# Altium footprint library lib_vishay.PcbLib: 4 footprints
Each footprint in its own frame and in the unit in brackets; x right, y up, seen from the top. Pads: shape width x height; smd on the part's side, far side on the other; paste and mask are expansions set on the pad; w line width, h text height; cw(c..) or ccw(c..) is an arc to the next point about the centre after c.
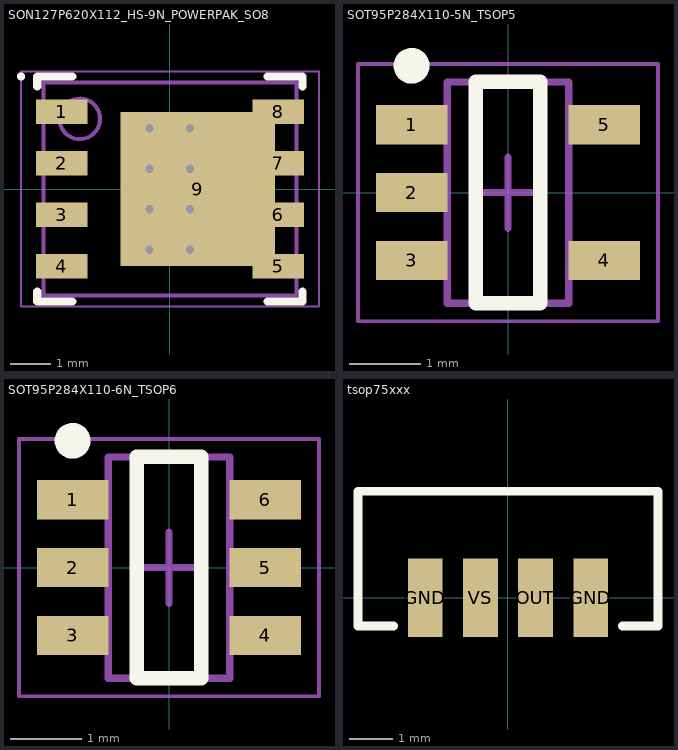
[diagram p0: the footprints below, top view; thin cyan lines are the x and y axes]

## SON127P620X112_HS-9N_POWERPAK_SO8 [mm] "SON, 8-Leads, Body 5.15x6.15mm, Pitch 1.27mm, Thermal Pad 3.98x1.50mm, IPC Medium Density"
height 1.12
pads (9):
  rect 1.27x0.61 smd: 1(-2.67,1.905) 2(-2.67,0.635) 3(-2.67,-0.635) 4(-2.67,-1.905) 5(2.67,-1.905) 6(2.67,-0.635) 7(2.67,0.635) 8(2.67,1.905)
  rect 3.81x3.81 smd: 9(0.69,0)
via 0.5,-1.5 diameter 0.5 hole 0.2
via -0.5,-1.5 diameter 0.5 hole 0.2
via 0.5,-0.5 diameter 0.5 hole 0.2
via -0.5,-0.5 diameter 0.5 hole 0.2
via 0.5,0.5 diameter 0.5 hole 0.2
via -0.5,0.5 diameter 0.5 hole 0.2
via 0.5,1.5 diameter 0.5 hole 0.2
via -0.5,1.5 diameter 0.5 hole 0.2
Top Overlay:
  circle w0.1: c-3.675,2.78 r0.05
  lines w0.2: -3.275,-2.53 -3.275,-2.78 -2.41,-2.78 ; -3.275,2.53 -3.275,2.78 -2.41,2.78 ; 2.41,-2.78 3.275,-2.78 3.275,-2.53 ; 2.41,2.78 3.275,2.78 3.275,2.53
Mechanical 13:
  circle w0.1: c-2.225,1.73 r0.5
  lines w0.1: -3.125,-2.63 3.125,-2.63 3.125,2.63 -3.125,2.63 -3.125,-2.63
Mechanical 15:
  lines w0.05: -3.68,-2.9 3.68,-2.9 3.68,2.9 -3.68,2.9 -3.68,-2.9
  lines w0.1: -0.5,0 0.5,0 ; 0,-0.5 0,0.5
3D body "SON127P620X112_HS-9N_POWERPAK_SO8.step": height 1.12, standoff 0, extent -3.126,-2.63 3.126,2.63

## SOT95P284X110-5N_TSOP5 [mm] "SOT23, 5-Leads, Body 3.03x2.84mm, Pitch 0.95mm, IPC Medium Density"
height 1.1
pads (5):
  rect 1x0.55 smd: 1(-1.35,0.95) 2(-1.35,0) 3(-1.35,-0.95) 4(1.35,-0.95) 5(1.35,0.95)
Top Overlay:
  circle w0.25: c-1.35,1.775 r0.125
  lines w0.2: -0.45,-1.55 -0.45,1.55 0.45,1.55 0.45,-1.55 -0.45,-1.55
Mechanical 13:
  lines w0.1: -0.85,-1.55 0.85,-1.55 0.85,1.55 -0.85,1.55 -0.85,-1.55
Mechanical 15:
  lines w0.05: -2.1,-1.8 2.1,-1.8 2.1,1.8 -2.1,1.8 -2.1,-1.8
  lines w0.1: -0.5,0 0.5,0 ; 0,-0.5 0,0.5
3D body "SOT95P284X110-5N_TSOP5.step": height 1.1, standoff 0, extent -1.49,-1.55 1.49,1.55

## SOT95P284X110-6N_TSOP6 [mm] "SOT23, 6-Leads, Body 3.03x2.84mm, Pitch 0.95mm, IPC Medium Density"
height 1.1
pads (6):
  rect 1x0.55 smd: 1(-1.35,0.95) 2(-1.35,0) 3(-1.35,-0.95) 4(1.35,-0.95) 5(1.35,0) 6(1.35,0.95)
Top Overlay:
  circle w0.25: c-1.35,1.775 r0.125
  lines w0.2: -0.45,-1.55 -0.45,1.55 0.45,1.55 0.45,-1.55 -0.45,-1.55
Mechanical 13:
  lines w0.1: -0.85,-1.55 0.85,-1.55 0.85,1.55 -0.85,1.55 -0.85,-1.55
Mechanical 15:
  lines w0.05: -2.1,-1.8 2.1,-1.8 2.1,1.8 -2.1,1.8 -2.1,-1.8
  lines w0.1: -0.5,0 0.5,0 ; 0,-0.5 0,0.5
3D body "SOT95P284X110-6N_TSOP6.step": height 1.1, standoff 0, extent -1.49,-1.55 1.49,1.55

## tsop75xxx [mm] "TSOP75XXXX(W)"
pads (4):
  rect 0.8x1.8 smd: GND(-1.905,0) GND(1.905,0) OUT(0.635,0) VS(-0.635,0)
Top Overlay:
  lines w0.2: -2.625,-0.65 -3.45,-0.65 -3.45,2.45 3.45,2.45 3.45,-0.65 2.625,-0.65
3D body "82673Heimdall_W.stp": height 2.51, standoff 0.01, extent -3.45,-0.65 3.45,2.45